# EAGLE library part MILLI-GRID-50 (library con-molex)
Milli-Grid Pin Header 2.00mm (.079") Pitch
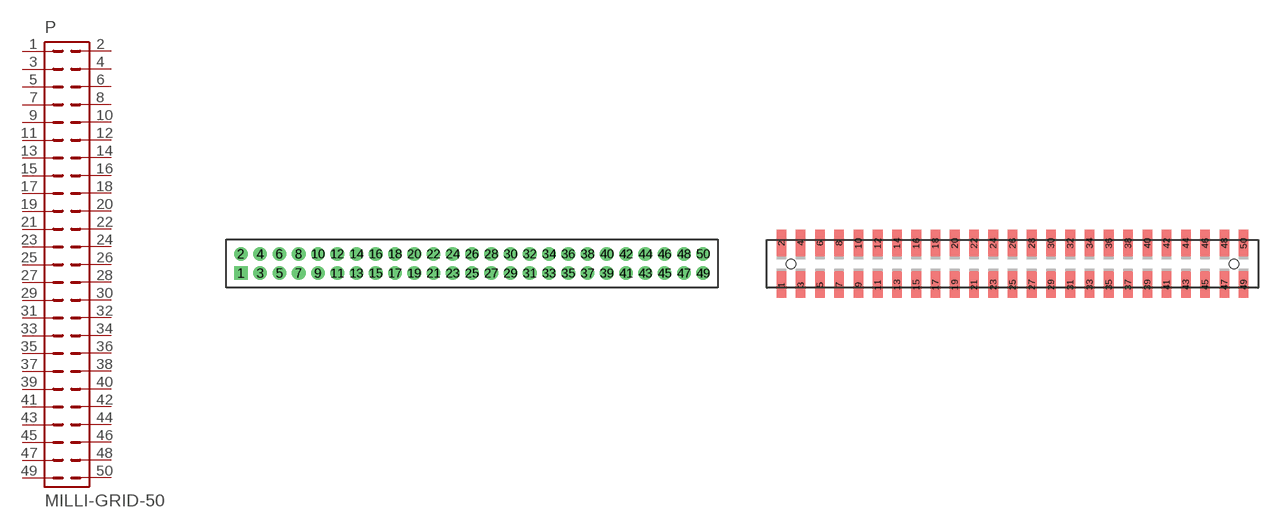
[diagram p73: symbol with the pads of 87758-50; footprints 87758-50, 87759-50]

Designator prefix P

## MILLI-GRID-50-87758  [87758-50]
1  1  pas
2  2  pas
3  3  pas
4  4  pas
5  5  pas
6  6  pas
7  7  pas
8  8  pas
9  9  pas
10  10  pas
11  11  pas
12  12  pas
13  13  pas
14  14  pas
15  15  pas
16  16  pas
17  17  pas
18  18  pas
19  19  pas
20  20  pas
21  21  pas
22  22  pas
23  23  pas
24  24  pas
25  25  pas
26  26  pas
27  27  pas
28  28  pas
29  29  pas
30  30  pas
31  31  pas
32  32  pas
33  33  pas
34  34  pas
35  35  pas
36  36  pas
37  37  pas
38  38  pas
39  39  pas
40  40  pas
41  41  pas
42  42  pas
43  43  pas
44  44  pas
45  45  pas
46  46  pas
47  47  pas
48  48  pas
49  49  pas
50  50  pas

## MILLI-GRID-50-87759  [87759-50]
Pads as for 87758-50

## MILLI-GRID-50-87832  [87832-50]
Pads as for 87758-50

## MILLI-GRID-50-79109  [79109-50]
Pads as for 87758-50

## MILLI-GRID-50-79107  [79107-50]
Pads as for 87758-50

## MILLI-GRID-50-87264  [87264-50]
Pads as for 87758-50

## MILLI-GRID-50-87368  [87368-50]
Pads as for 87758-50

## MILLI-GRID-5079109-50_M  [79109-50_M]
Pads as for 87758-50

## Footprint 87758-50 (pad centres in mm)
PCB Pin Headers 2.00mm (.079") Pitch Milli-Grid Header, Vertical
drill 0.914 square: 1 -24,-1
drill 0.914: 2 -24,1; 3 -22,-1; 4 -22,1; 5 -20,-1; 6 -20,1; 7 -18,-1; 8 -18,1; 9 -16,-1; 10 -16,1; 11 -14,-1; 12 -14,1; 13 -12,-1; 14 -12,1; 15 -10,-1; 16 -10,1; 17 -8,-1; 18 -8,1; 19 -6,-1; 20 -6,1; 21 -4,-1; 22 -4,1; 23 -2,-1; 24 -2,1; 25 0,-1; 26 0,1; 27 2,-1; 28 2,1; 29 4,-1; 30 4,1; 31 6,-1; 32 6,1; 33 8,-1; 34 8,1; 35 10,-1; 36 10,1; 37 12,-1; 38 12,1; 39 14,-1; 40 14,1; 41 16,-1; 42 16,1; 43 18,-1; 44 18,1; 45 20,-1; 46 20,1; 47 22,-1; 48 22,1; 49 24,-1; 50 24,1

## Footprint 87759-50 (pad centres in mm)
PCB Pin Headers 2.00mm (.079") Pitch Milli-Grid Header, Vertical SMD
smd 1 x 2.75: 1 -24,-2.15; 2 -24,2.15; 3 -22,-2.15; 4 -22,2.15; 5 -20,-2.15; 6 -20,2.15; 7 -18,-2.15; 8 -18,2.15; 9 -16,-2.15; 10 -16,2.15; 11 -14,-2.15; 12 -14,2.15; 13 -12,-2.15; 14 -12,2.15; 15 -10,-2.15; 16 -10,2.15; 17 -8,-2.15; 18 -8,2.15; 19 -6,-2.15; 20 -6,2.15; 21 -4,-2.15; 22 -4,2.15; 23 -2,-2.15; 24 -2,2.15; 25 0,-2.15; 26 0,2.15; 27 2,-2.15; 28 2,2.15; 29 4,-2.15; 30 4,2.15; 31 6,-2.15; 32 6,2.15; 33 8,-2.15; 34 8,2.15; 35 10,-2.15; 36 10,2.15; 37 12,-2.15; 38 12,2.15; 39 14,-2.15; 40 14,2.15; 41 16,-2.15; 42 16,2.15; 43 18,-2.15; 44 18,2.15; 45 20,-2.15; 46 20,2.15; 47 22,-2.15; 48 22,2.15; 49 24,-2.15; 50 24,2.15
hole 1 at -23,0
hole 1 at 23,0

## Footprint 87832-50 (pad centres in mm)
PCB Headers 2.00mm (.079") Pitch Milli-Grid Header, Vertical, Shrouded
smd 1 x 2.75: 1 -24,-2.15; 2 -24,2.15; 3 -22,-2.15; 4 -22,2.15; 5 -20,-2.15; 6 -20,2.15; 7 -18,-2.15; 8 -18,2.15; 9 -16,-2.15; 10 -16,2.15; 11 -14,-2.15; 12 -14,2.15; 13 -12,-2.15; 14 -12,2.15; 15 -10,-2.15; 16 -10,2.15; 17 -8,-2.15; 18 -8,2.15; 19 -6,-2.15; 20 -6,2.15; 21 -4,-2.15; 22 -4,2.15; 23 -2,-2.15; 24 -2,2.15; 25 0,-2.15; 26 0,2.15; 27 2,-2.15; 28 2,2.15; 29 4,-2.15; 30 4,2.15; 31 6,-2.15; 32 6,2.15; 33 8,-2.15; 34 8,2.15; 35 10,-2.15; 36 10,2.15; 37 12,-2.15; 38 12,2.15; 39 14,-2.15; 40 14,2.15; 41 16,-2.15; 42 16,2.15; 43 18,-2.15; 44 18,2.15; 45 20,-2.15; 46 20,2.15; 47 22,-2.15; 48 22,2.15; 49 24,-2.15; 50 24,2.15
hole 1 at -23,0
hole 1 at 23,0

## Footprint 79109-50 (pad centres in mm)
Board-to-Board Receptacal 2.00mm (.079") Pitch Milli-Grid Header, Vertical, Top/Bottom Entry Mates with: 87758, 87759, 87760, 87831, 87832, 87833
smd 1.12 x 1.83: 1 -24,-2.65; 2 -24,2.65; 3 -22,-2.65; 4 -22,2.65; 5 -20,-2.65; 6 -20,2.65; 7 -18,-2.65; 8 -18,2.65; 9 -16,-2.65; 10 -16,2.65; 11 -14,-2.65; 12 -14,2.65; 13 -12,-2.65; 14 -12,2.65; 15 -10,-2.65; 16 -10,2.65; 17 -8,-2.65; 18 -8,2.65; 19 -6,-2.65; 20 -6,2.65; 21 -4,-2.65; 22 -4,2.65; 23 -2,-2.65; 24 -2,2.65; 25 0,-2.65; 26 0,2.65; 27 2,-2.65; 28 2,2.65; 29 4,-2.65; 30 4,2.65; 31 6,-2.65; 32 6,2.65; 33 8,-2.65; 34 8,2.65; 35 10,-2.65; 36 10,2.65; 37 12,-2.65; 38 12,2.65; 39 14,-2.65; 40 14,2.65; 41 16,-2.65; 42 16,2.65; 43 18,-2.65; 44 18,2.65; 45 20,-2.65; 46 20,2.65; 47 22,-2.65; 48 22,2.65; 49 24,-2.65; 50 24,2.65
hole 0.914 at -23,0
hole 0.914 at -24,1
hole 0.914 at -24,-1
hole 0.914 at -22,-1
hole 0.914 at -22,1
hole 0.914 at -20,-1
hole 0.914 at -20,1
hole 0.914 at -18,1
hole 0.914 at -18,-1
hole 0.914 at -16,1
hole 0.914 at -16,-1
hole 0.914 at -14,1
hole 0.914 at -14,-1
hole 0.914 at -12,1
hole 0.914 at -12,-1
hole 0.914 at -10,-1
hole 0.914 at -10,1
hole 0.914 at -8,1
hole 0.914 at -8,-1
hole 0.914 at -6,1
hole 0.914 at -6,-1
hole 0.914 at -4,1
hole 0.914 at -4,-1
hole 0.914 at -2,-1
hole 0.914 at -2,1
hole 0.914 at 0,1
hole 0.914 at 2,1
hole 0.914 at 4,1
hole 0.914 at 0,-1
hole 0.914 at 2,-1
hole 0.914 at 4,-1
hole 0.914 at 6,-1
hole 0.914 at 8,-1
hole 0.914 at 10,-1
hole 0.914 at 12,-1
hole 0.914 at 14,-1
hole 0.914 at 6,1
hole 0.914 at 8,1
hole 0.914 at 10,1
hole 0.914 at 12,1
hole 0.914 at 14,1
hole 0.914 at 16,-1
hole 0.914 at 18,-1
hole 0.914 at 16,1
hole 0.914 at 18,1
hole 0.914 at 20,1
hole 0.914 at 22,1
hole 0.914 at 24,1
hole 0.914 at 20,-1
hole 0.914 at 22,-1
hole 0.914 at 24,-1
hole 0.914 at 23,0

## Footprint 79107-50 (pad centres in mm)
Board-To-Board Receptacal 2.00mm (.079") Pitch Milli-Grid Header, Vertical, Through-Hole Mates with: 87759, 87762, 87758, 87760
drill 0.914 square: 1 -24,-1
drill 0.914: 2 -24,1; 3 -22,-1; 4 -22,1; 5 -20,-1; 6 -20,1; 7 -18,-1; 8 -18,1; 9 -16,-1; 10 -16,1; 11 -14,-1; 12 -14,1; 13 -12,-1; 14 -12,1; 15 -10,-1; 16 -10,1; 17 -8,-1; 18 -8,1; 19 -6,-1; 20 -6,1; 21 -4,-1; 22 -4,1; 23 -2,-1; 24 -2,1; 25 0,-1; 26 0,1; 27 2,-1; 28 2,1; 29 4,-1; 30 4,1; 31 6,-1; 32 6,1; 33 8,-1; 34 8,1; 35 10,-1; 36 10,1; 37 12,-1; 38 12,1; 39 14,-1; 40 14,1; 41 16,-1; 42 16,1; 43 18,-1; 44 18,1; 45 20,-1; 46 20,1; 47 22,-1; 48 22,1; 49 24,-1; 50 24,1

## Footprint 87264-50 (pad centres in mm)
Board-To-Board Receptacal 2.00mm (.079") Pitch Milli-Grid Header, Side Entry Mates with 2mm(.079") Mill-Grid Header
drill 0.914 square: 1 -24,-2.25
drill 0.914: 2 -24,2.25; 3 -22,-2.25; 4 -22,2.25; 5 -20,-2.25; 6 -20,2.25; 7 -18,-2.25; 8 -18,2.25; 9 -16,-2.25; 10 -16,2.25; 11 -14,-2.25; 12 -14,2.25; 13 -12,-2.25; 14 -12,2.25; 15 -10,-2.25; 16 -10,2.25; 17 -8,-2.25; 18 -8,2.25; 19 -6,-2.25; 20 -6,2.25; 21 -4,-2.25; 22 -4,2.25; 23 -2,-2.25; 24 -2,2.25; 25 0,-2.25; 26 0,2.25; 27 2,-2.25; 28 2,2.25; 29 4,-2.25; 30 4,2.25; 31 6,-2.25; 32 6,2.25; 33 8,-2.25; 34 8,2.25; 35 10,-2.25; 36 10,2.25; 37 12,-2.25; 38 12,2.25; 39 14,-2.25; 40 14,2.25; 41 16,-2.25; 42 16,2.25; 43 18,-2.25; 44 18,2.25; 45 20,-2.25; 46 20,2.25; 47 22,-2.25; 48 22,2.25; 49 24,-2.25; 50 24,2.25

## Footprint 87368-50 (pad centres in mm)
Board-To-Board Receptacal 2.00mm (.079") Pitch Milli-Grid Header, Side Entry SMD Mates with 2mm(.079") Mill-Grid Header
smd 1 x 2.8: 1 -24,-3.1; 2 -24,3.1; 3 -22,-3.1; 4 -22,3.1; 5 -20,-3.1; 6 -20,3.1; 7 -18,-3.1; 8 -18,3.1; 9 -16,-3.1; 10 -16,3.1; 11 -14,-3.1; 12 -14,3.1; 13 -12,-3.1; 14 -12,3.1; 15 -10,-3.1; 16 -10,3.1; 17 -8,-3.1; 18 -8,3.1; 19 -6,-3.1; 20 -6,3.1; 21 -4,-3.1; 22 -4,3.1; 23 -2,-3.1; 24 -2,3.1; 25 0,-3.1; 26 0,3.1; 27 2,-3.1; 28 2,3.1; 29 4,-3.1; 30 4,3.1; 31 6,-3.1; 32 6,3.1; 33 8,-3.1; 34 8,3.1; 35 10,-3.1; 36 10,3.1; 37 12,-3.1; 38 12,3.1; 39 14,-3.1; 40 14,3.1; 41 16,-3.1; 42 16,3.1; 43 18,-3.1; 44 18,3.1; 45 20,-3.1; 46 20,3.1; 47 22,-3.1; 48 22,3.1; 49 24,-3.1; 50 24,3.1
hole 0.914 at -24,0
hole 0.914 at 0,0

## Footprint 79109-50_M (pad centres in mm)
Board-to-Board Receptacal - MIRRORED PINS! 2.00mm (.079") Pitch Milli-Grid Header, Vertical, Top/Bottom Entry Mates with: 87758, 87759, 87760, 87831, 87832, 87833
smd 1.12 x 1.83: 1 -24,-2.65; 2 -24,2.65; 3 -22,-2.65; 4 -22,2.65; 5 -20,-2.65; 6 -20,2.65; 7 -18,-2.65; 8 -18,2.65; 9 -16,-2.65; 10 -16,2.65; 11 -14,-2.65; 12 -14,2.65; 13 -12,-2.65; 14 -12,2.65; 15 -10,-2.65; 16 -10,2.65; 17 -8,-2.65; 18 -8,2.65; 19 -6,-2.65; 20 -6,2.65; 21 -4,-2.65; 22 -4,2.65; 23 -2,-2.65; 24 -2,2.65; 25 0,-2.65; 26 0,2.65; 27 2,-2.65; 28 2,2.65; 29 4,-2.65; 30 4,2.65; 31 6,-2.65; 32 6,2.65; 33 8,-2.65; 34 8,2.65; 35 10,-2.65; 36 10,2.65; 37 12,-2.65; 38 12,2.65; 39 14,-2.65; 40 14,2.65; 41 16,-2.65; 42 16,2.65; 43 18,-2.65; 44 18,2.65; 45 20,-2.65; 46 20,2.65; 47 22,-2.65; 48 22,2.65; 49 24,-2.65; 50 24,2.65
hole 0.914 at -23,0
hole 0.914 at -24,1
hole 0.914 at -24,-1
hole 0.914 at -22,-1
hole 0.914 at -22,1
hole 0.914 at -20,-1
hole 0.914 at -20,1
hole 0.914 at -18,1
hole 0.914 at -18,-1
hole 0.914 at -16,1
hole 0.914 at -16,-1
hole 0.914 at -14,1
hole 0.914 at -14,-1
hole 0.914 at -12,1
hole 0.914 at -12,-1
hole 0.914 at -10,-1
hole 0.914 at -10,1
hole 0.914 at -8,1
hole 0.914 at -8,-1
hole 0.914 at -6,1
hole 0.914 at -6,-1
hole 0.914 at -4,1
hole 0.914 at -4,-1
hole 0.914 at -2,-1
hole 0.914 at -2,1
hole 0.914 at 0,1
hole 0.914 at 2,1
hole 0.914 at 4,1
hole 0.914 at 0,-1
hole 0.914 at 2,-1
hole 0.914 at 4,-1
hole 0.914 at 6,-1
hole 0.914 at 8,-1
hole 0.914 at 10,-1
hole 0.914 at 12,-1
hole 0.914 at 14,-1
hole 0.914 at 6,1
hole 0.914 at 8,1
hole 0.914 at 10,1
hole 0.914 at 12,1
hole 0.914 at 14,1
hole 0.914 at 16,-1
hole 0.914 at 18,-1
hole 0.914 at 16,1
hole 0.914 at 18,1
hole 0.914 at 20,1
hole 0.914 at 22,1
hole 0.914 at 24,1
hole 0.914 at 20,-1
hole 0.914 at 22,-1
hole 0.914 at 24,-1
hole 0.914 at 23,0